# Altium schematic symbol library Bobcat.SchLib: 1 symbol
Pins are listed as number, name and electrical type; pins without a type are passive.

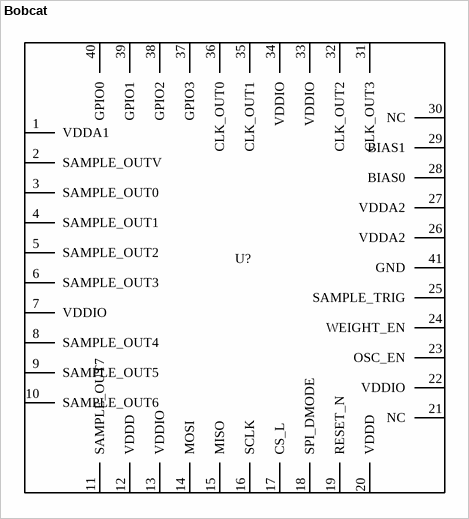
[diagram p0: symbol Bobcat]

## Bobcat
designator U?
Bobcat mixed-signal test chip — 40-QFN, 5x5 mm, 0.4 mm pitch, exposed GND pad (41); Manufacturer: Unconventional AI; Value: Bobcat; Footprint: Bobcat:QFN-40_5x5mm_P0.4mm_EP3.5mm; MPN: Bobcat
pins: 1 VDDA1, 2 SAMPLE_OUTV, 3 SAMPLE_OUT0, 4 SAMPLE_OUT1, 5 SAMPLE_OUT2, 6 SAMPLE_OUT3, 7 VDDIO, 8 SAMPLE_OUT4, 9 SAMPLE_OUT5, 10 SAMPLE_OUT6, 11 SAMPLE_OUT7, 12 VDDD, 13 VDDIO, 14 MOSI, 15 MISO, 16 SCLK, 17 CS_L, 18 SPI_DMODE, 19 RESET_N, 20 VDDD, 21 NC, 22 VDDIO, 23 OSC_EN, 24 WEIGHT_EN, 25 SAMPLE_TRIG, 26 VDDA2, 27 VDDA2, 28 BIAS0, 29 BIAS1, 30 NC, 31 CLK_OUT3, 32 CLK_OUT2, 33 VDDIO, 34 VDDIO, 35 CLK_OUT1, 36 CLK_OUT0, 37 GPIO3, 38 GPIO2, 39 GPIO1, 40 GPIO0, 41 GND